# Altium footprint library HIROSE UX60SC-MB-5S8(80).PcbLib: 1 footprints
Each footprint in its own frame and in the unit in brackets; x right, y up, seen from the top. Pads: shape width x height; smd on the part's side, far side on the other; paste and mask are expansions set on the pad; w line width, h text height; cw(c..) or ccw(c..) is an arc to the next point about the centre after c.
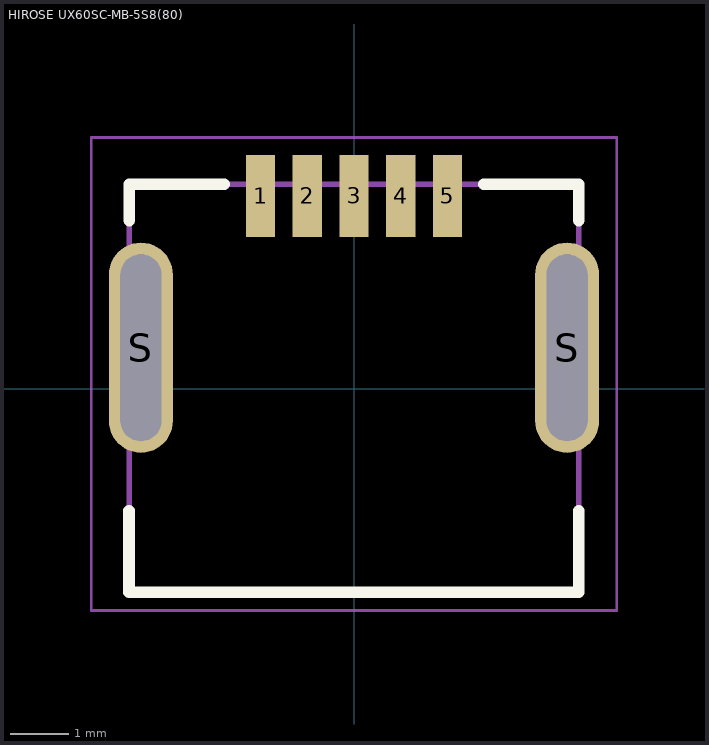
[diagram p0: the footprint, top view; thin cyan lines are the x and y axes]

## HIROSE UX60SC-MB-5S8(80) [mm] "USB MINI B Connector"
height 3.9
pads (7):
  rect 0.5x1.4 smd: 1(-1.6,3.3) 2(-0.8,3.3) 3(0,3.3) 4(0.8,3.3) 5(1.6,3.3)
  oval 1.1x3.6 hole 0.7 slot 3.2 at 90 deg: S(-3.65,0.7) S(3.65,0.7)
Top Overlay:
  lines w0.2: -3.853,-2.094 -3.853,-3.491 3.85,-3.491 3.85,-2.094 ; -3.85,2.879 -3.85,3.5 -2.221,3.5 ; 2.221,3.5 3.85,3.5 3.85,2.879
Top Assembly:
  lines w0.1: -3.85,-3.5 3.85,-3.5 3.85,3.5 -3.85,3.5 -3.85,-3.5
Top Courtyard:
  lines w0.05: -4.5,-3.8 4.5,-3.8 4.5,4.3 -4.5,4.3 -4.5,-3.8
Top Designator:
  text ".Designator" at -7.498,-0.5 h1.5
3D body "WQ-1600514.stp": height 3.95, standoff -0.75, extent -3.85,-3.5 3.85,3.5